# EAGLE library part CY8CMBR3102 (library cypress)
CapSense® ExpressTM Controllers With SmartSenseTM Auto-tuning￼
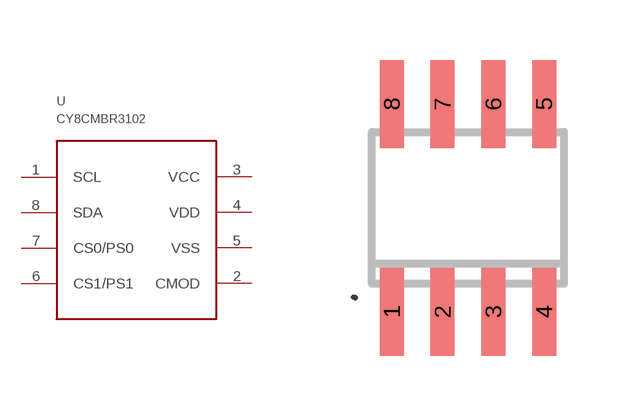
[diagram p21: symbol with the pads of SO08; footprint SO08]

Designator prefix -

## CY8CMBR3102  [SO08]
1  SCL
2  CMOD
3  VCC
4  VDD
5  VSS
6  CS1/PS1
7  CS0/PS0
8  SDA

## Footprint SO08 (pad centres in mm)
SMALL OUTLINE INTEGRATED CIRCUIT body 3.9 mm/JEDEC MS-012AA
smd 0.6 x 2.2: 1 -1.905,-2.6; 2 -0.635,-2.6; 3 0.635,-2.6; 4 1.905,-2.6; 5 1.905,2.6; 6 0.635,2.6; 7 -0.635,2.6; 8 -1.905,2.6